# Altium schematic symbol library SCH - BUTTON - WURTH WS-TATL RGLED.SchLib: 1 symbol
Pins are listed as number, name and electrical type; pins without a type are passive.

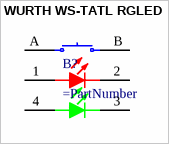
[diagram p0: symbol WURTH WS-TATL RGLED]

## WURTH WS-TATL RGLED
designator B?
pins: 1, 2, 3, 4, A, B